# Altium schematic symbol library Schlib1.SchLib: 24 symbols
Pins are listed as number, name and electrical type; pins without a type are passive.

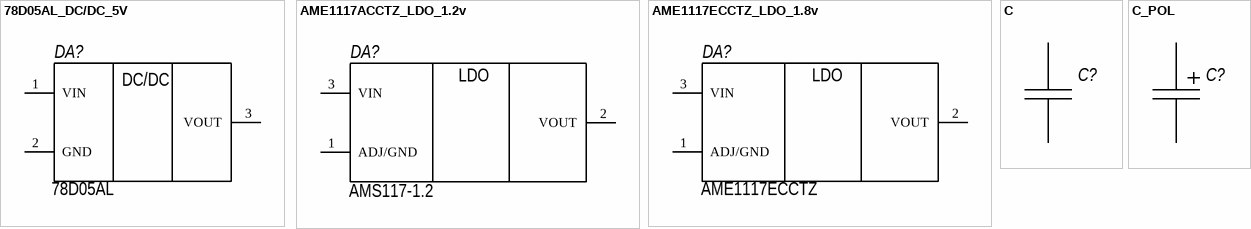
[diagram p0: symbols 78D05AL_DC/DC_5V to C_POL]

## 78D05AL_DC/DC_5V
designator DA?, comment 78D05AL
pins: 1 VIN, 2 GND, 3 VOUT
text: DC/DC

## AME1117ACCTZ_LDO_1.2v
designator DA?, comment AMS117-1.2
pins: 1 ADJ/GND, 2 VOUT, 3 VIN
text: LDO

## AME1117ECCTZ_LDO_1.8v
designator DA?, comment AME1117ECCTZ
pins: 1 ADJ/GND, 2 VOUT, 3 VIN
text: LDO

## C
designator C?
ValueType: Конденсатор
pins: 1, 1, 2, 2

## C_POL
designator C?
ValueType: Конденсатор
pins: 1, 2

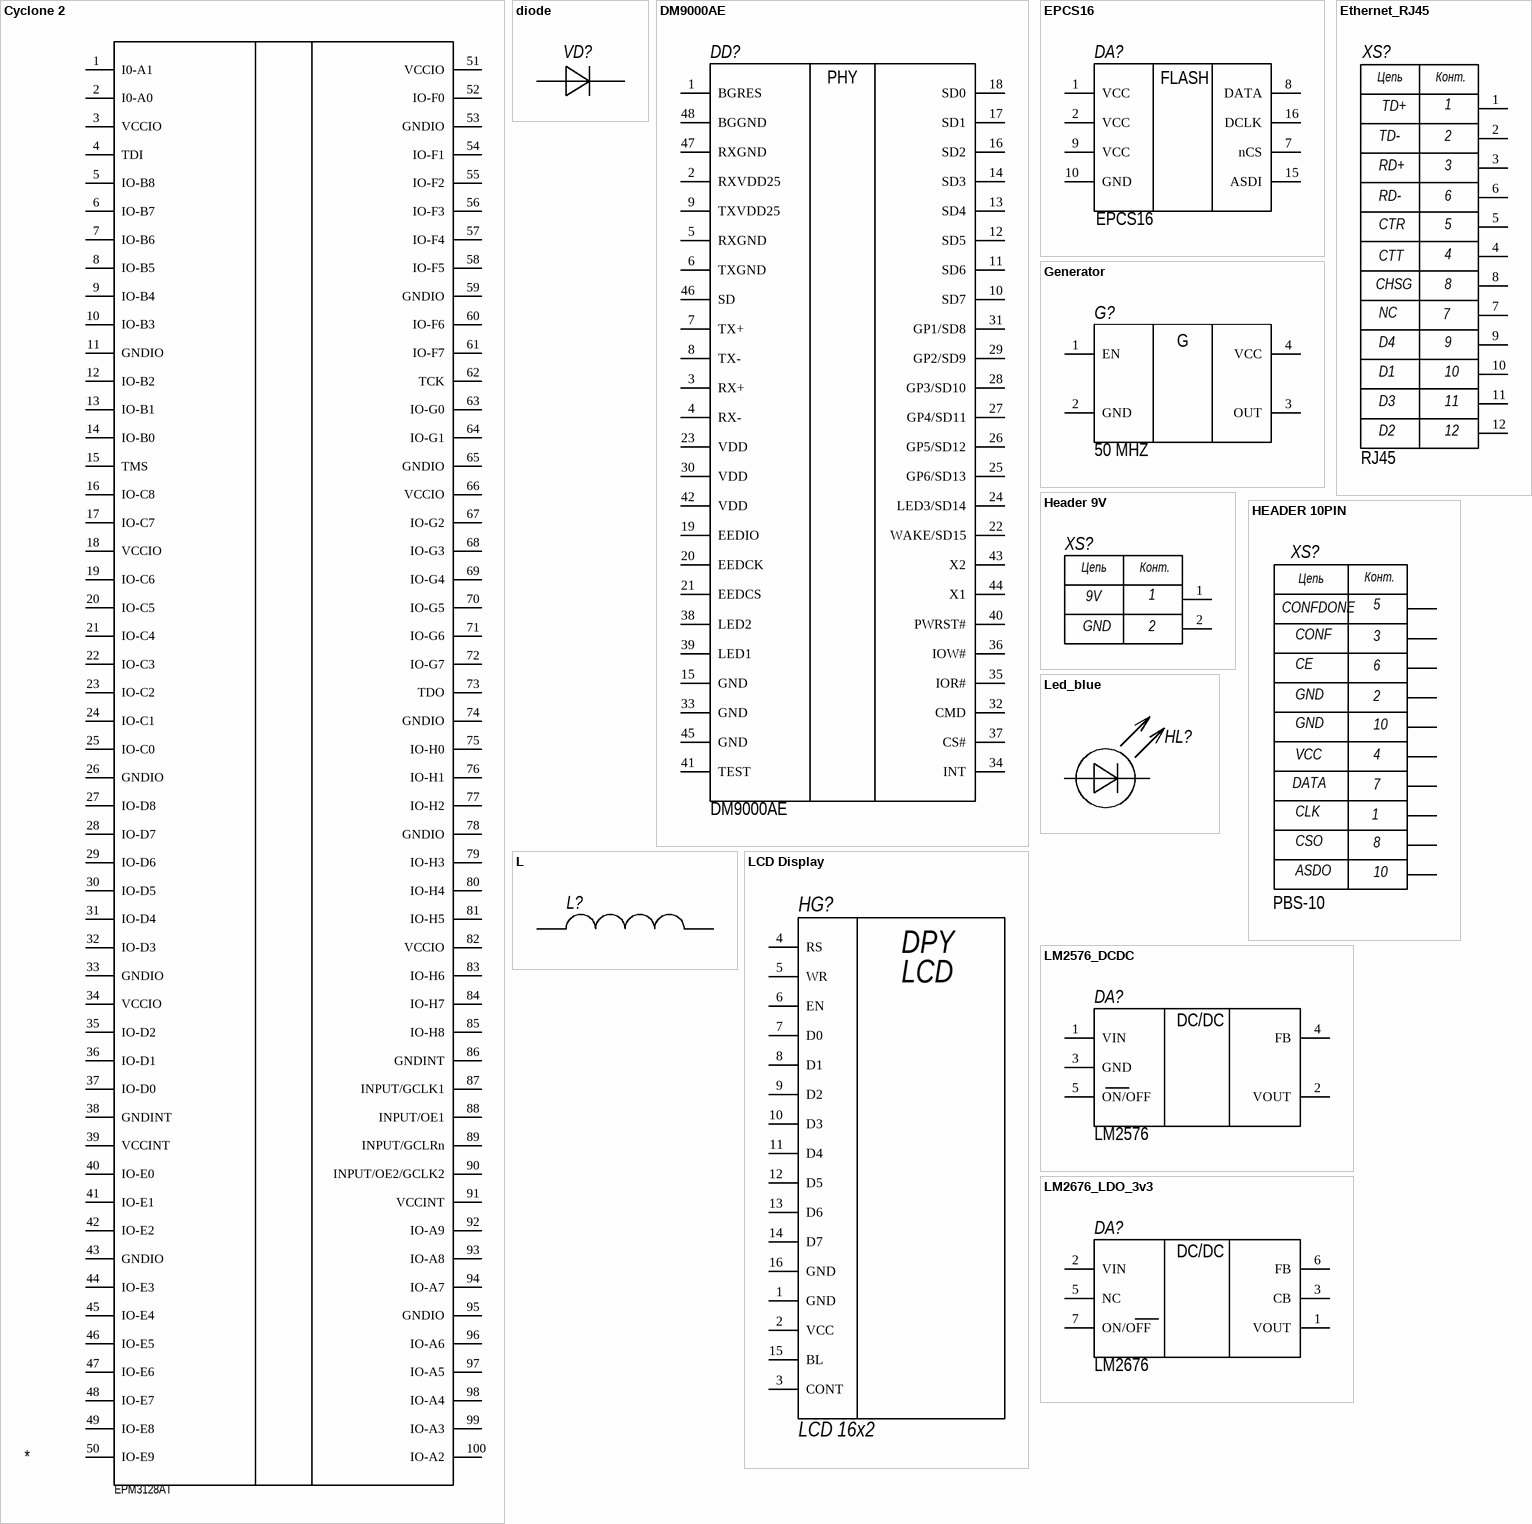
[diagram p1: symbols Cyclone 2 to LM2676_LDO_3v3]

## Cyclone 2
designator *, comment EPM3128AT
pins: 1 I0-A1, 2 I0-A0, 3 VCCIO, 4 TDI, 5 IO-B8, 6 IO-B7, 7 IO-B6, 8 IO-B5, 9 IO-B4, 10 IO-B3, 11 GNDIO, 12 IO-B2, 13 IO-B1, 14 IO-B0, 15 TMS, 16 IO-C8, 17 IO-C7, 18 VCCIO, 19 IO-C6, 20 IO-C5, 21 IO-C4, 22 IO-C3, 23 IO-C2, 24 IO-C1, 25 IO-C0, 26 GNDIO, 27 IO-D8, 28 IO-D7, 29 IO-D6, 30 IO-D5, 31 IO-D4, 32 IO-D3, 33 GNDIO, 34 VCCIO, 35 IO-D2, 36 IO-D1, 37 IO-D0, 38 GNDINT, 39 VCCINT, 40 IO-E0, 41 IO-E1, 42 IO-E2, 43 GNDIO, 44 IO-E3, 45 IO-E4, 46 IO-E5, 47 IO-E6, 48 IO-E7, 49 IO-E8, 50 IO-E9, 51 VCCIO, 52 IO-F0, 53 GNDIO, 54 IO-F1, 55 IO-F2, 56 IO-F3, 57 IO-F4, 58 IO-F5, 59 GNDIO, 60 IO-F6, 61 IO-F7, 62 TCK, 63 IO-G0, 64 IO-G1, 65 GNDIO, 66 VCCIO, 67 IO-G2, 68 IO-G3, 69 IO-G4, 70 IO-G5, 71 IO-G6, 72 IO-G7, 73 TDO, 74 GNDIO, 75 IO-H0, 76 IO-H1, 77 IO-H2, 78 GNDIO, 79 IO-H3, 80 IO-H4, 81 IO-H5, 82 VCCIO, 83 IO-H6, 84 IO-H7, 85 IO-H8, 86 GNDINT, 87 INPUT/GCLK1, 88 INPUT/OE1, 89 INPUT/GCLRn, 90 INPUT/OE2/GCLK2, 91 VCCINT, 92 IO-A9, 93 IO-A8, 94 IO-A7, 95 GNDIO, 96 IO-A6, 97 IO-A5, 98 IO-A4, 99 IO-A3, 100 IO-A2

## diode
designator VD?  (value not drawn)
ValueManufacturer: On Semiconductor; ValueManufacturerPartNumber: BAT54HT1G; Value: *; URL: *; Temp: *; Case: *; ValueType: *; ValueDescription: *
pins: 1, 2

## DM9000AE
designator DD?
pins: 1 BGRES, 2 RXVDD25, 3 RX+, 4 RX-, 5 RXGND, 6 TXGND, 7 TX+, 8 TX-, 9 TXVDD25, 10 SD7, 11 SD6, 12 SD5, 13 SD4, 14 SD3, 15 GND, 16 SD2, 17 SD1, 18 SD0, 19 EEDIO, 20 EEDCK, 21 EEDCS, 22 WAKE/SD15, 23 VDD, 24 LED3/SD14, 25 GP6/SD13, 26 GP5/SD12, 27 GP4/SD11, 28 GP3/SD10, 29 GP2/SD9, 30 VDD, 31 GP1/SD8, 32 CMD, 33 GND, 34 INT, 35 IOR#, 36 IOW#, 37 CS#, 38 LED2, 39 LED1, 40 PWRST#, 41 TEST, 42 VDD, 43 X2, 44 X1, 45 GND, 46 SD, 47 RXGND, 48 BGGND
text: PHY

## EPCS16
designator DA?
pins: 1 VCC, 2 VCC, 7 nCS, 8 DATA, 9 VCC, 10 GND, 15 ASDI, 16 DCLK
text: FLASH

## Ethernet_RJ45
designator XS?, comment RJ45
pins: 1, 2, 3, 4, 5, 6, 7, 8, 9, 10, 11, 12
text: Цепь; Конт.; TD+; TD-; RD+; RD-; CTR; CTT; CHSG; NC; D4; D1; D3; D2

## Generator
designator G?, comment 50 MHZ
pins: 1 EN, 2 GND, 3 OUT, 4 VCC
text: G

## Header 9V
designator XS?, comment Header  (value not drawn)
pins: 1, 2
text: Цепь; Конт.; 9V; GND

## HEADER 10PIN
designator XS?, comment PBS-10
pins: 2, 3, 4, 5 CONFDONE, 5, 6, 7, 8, 9, 10
text: Цепь; Конт.; CONF; CE; GND; VCC; DATA; CLK; 1; CSO; ASDO

## L
designator L?
pins: 1, 2

## LCD Display
designator HG?, comment LCD 16x2
pins: 1 GND, 2 VCC, 3 CONT, 4 RS, 5 WR, 6 EN, 7 D0, 8 D1, 9 D2, 10 D3, 11 D4, 12 D5, 13 D6, 14 D7, 15 BL, 16 GND
text: DPY; LCD

## Led_blue
designator HL?  (value not drawn)
ValueManufacturer: Foryard; ValueManufacturerPartNumber: fyls-0603urc; Temp: -40 C... +85 C; Value: Cиний; ValueType: Светодиод; URL: *; Case: 0603; ValueDescription: Светодиод
pins: 1, 3
1 alternate drawing of the same symbol

## LM2576_DCDC
designator DA?, comment LM2576
pins: 1 VIN, 2 VOUT, 3 GND, 4 FB, 5 ON/OFF
text: DC/DC

## LM2676_LDO_3v3
designator DA?, comment LM2676
pins: 1 VOUT, 2 VIN, 3 CB, 5 NC, 6 FB, 7 ON/OFF
text: DC/DC

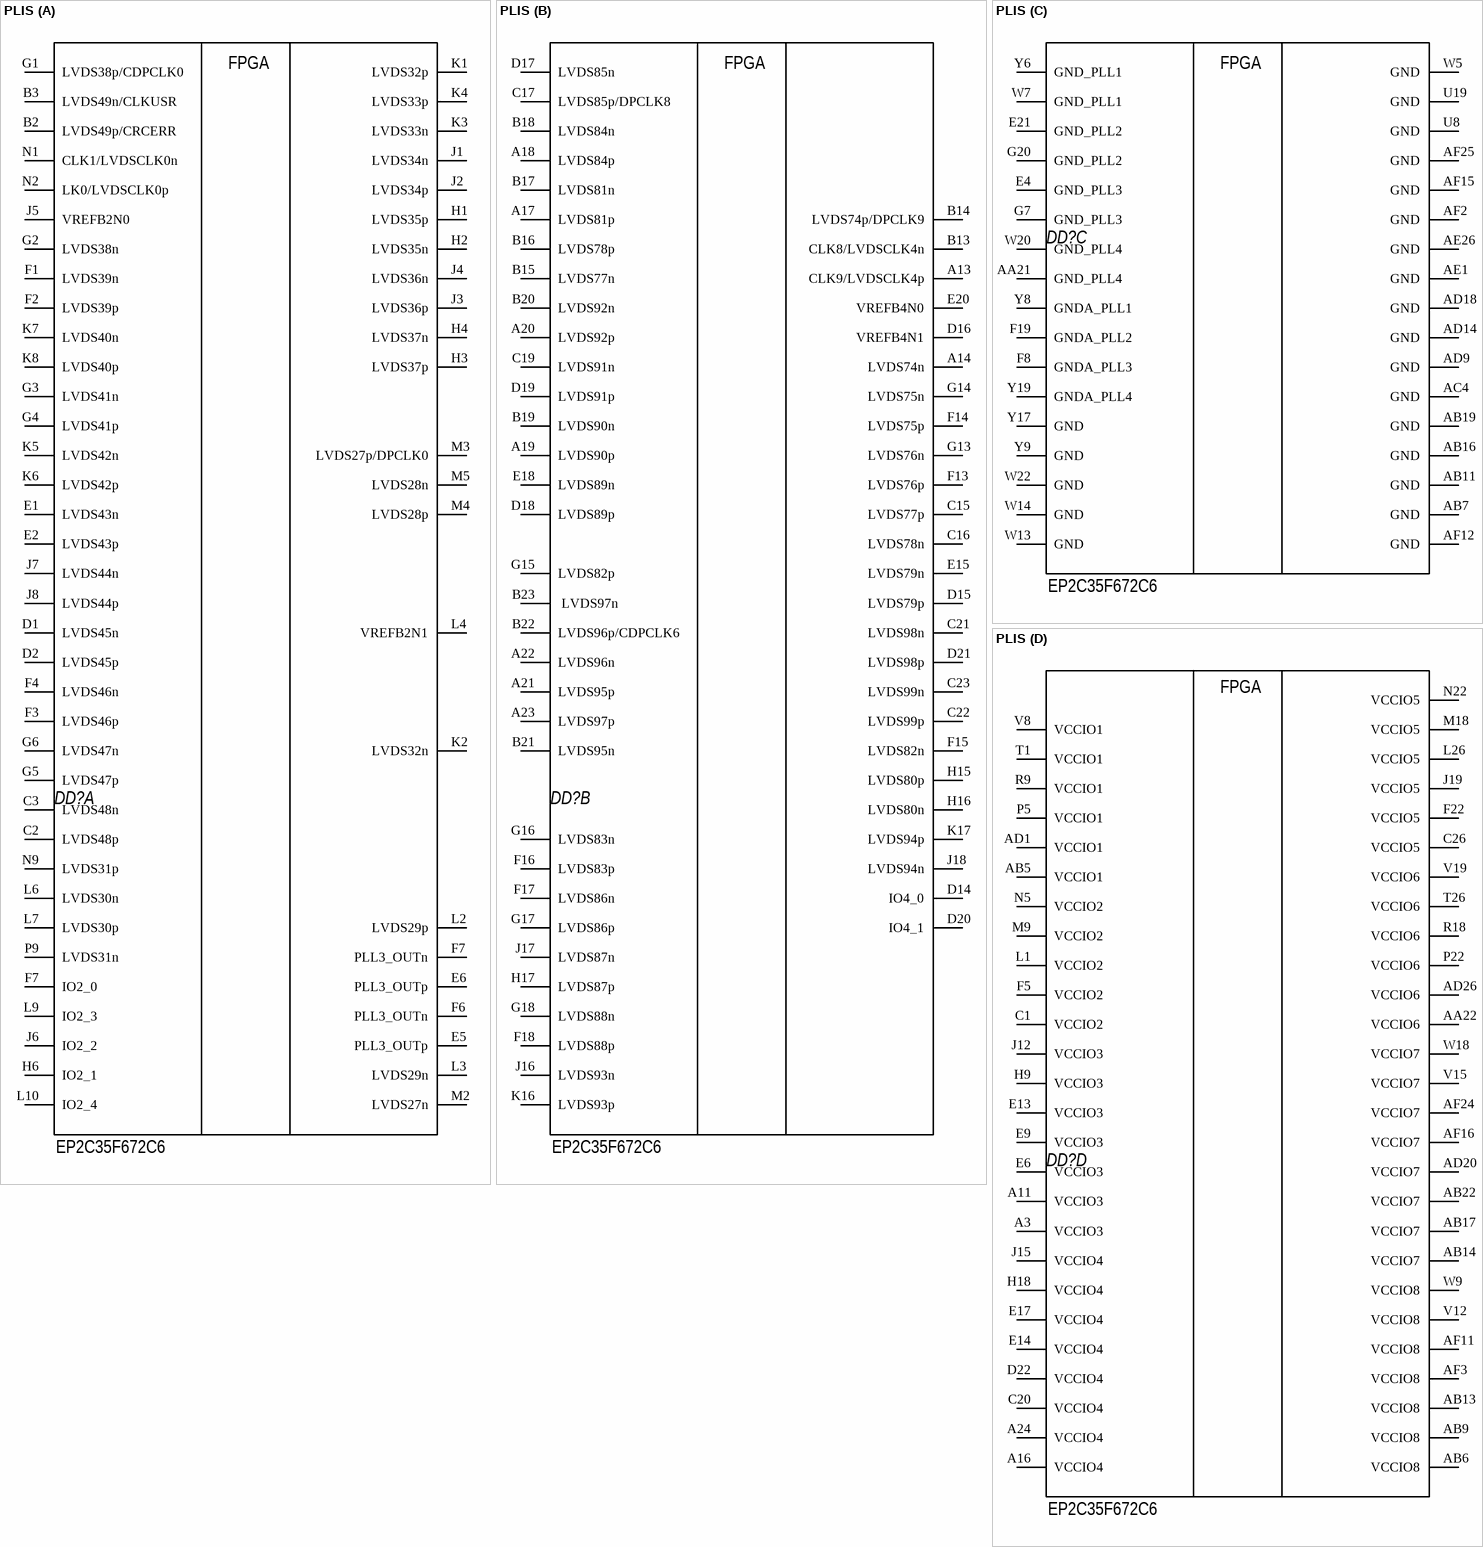
[diagram p2: symbol PLIS]

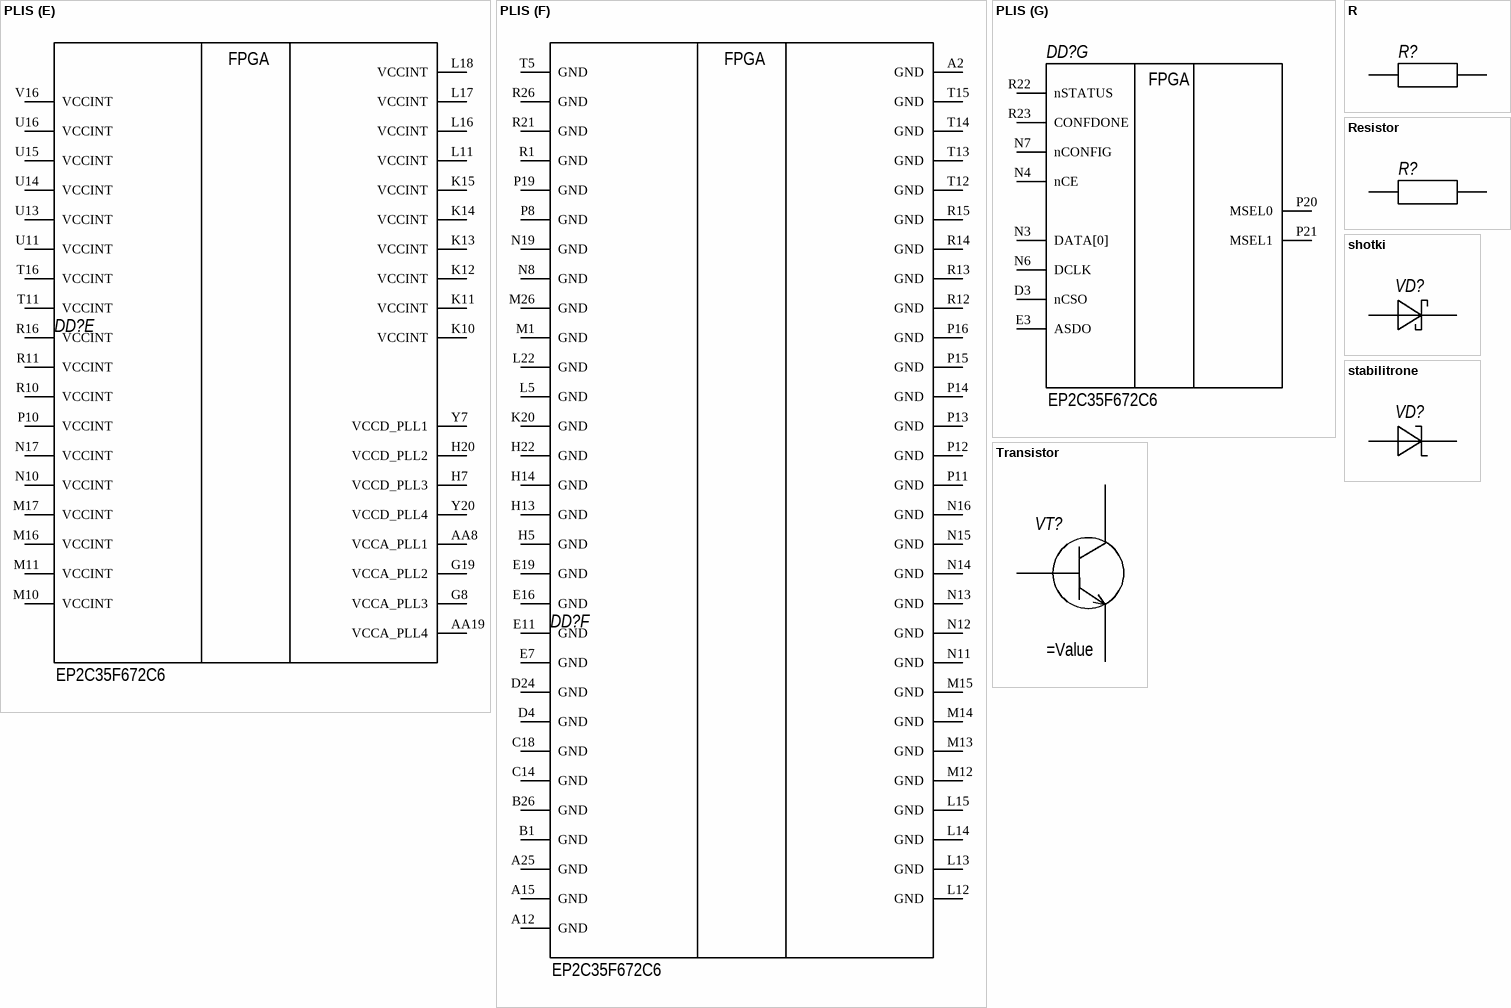
[diagram p3: symbols PLIS to Transistor]

## PLIS
designator DD?, comment EP2C35F672C6
part A pins: B2 LVDS49p/CRCERR, B3 LVDS49n/CLKUSR, C2 LVDS48p, C3 LVDS48n, D1 LVDS45n, D2 LVDS45p, E1 LVDS43n, E2 LVDS43p, E5 PLL3_OUTp, E6 PLL3_OUTp, F1 LVDS39n, F2 LVDS39p, F3 LVDS46p, F4 LVDS46n, F6 PLL3_OUTn, F7 IO2_0, F7 PLL3_OUTn, G1 LVDS38p/CDPCLK0, G2 LVDS38n, G3 LVDS41n, G4 LVDS41p, G5 LVDS47p, G6 LVDS47n, H1 LVDS35p, H2 LVDS35n, H3 LVDS37p, H4 LVDS37n, H6 IO2_1, J1 LVDS34n, J2 LVDS34p, J3 LVDS36p, J4 LVDS36n, J5 VREFB2N0, J6 IO2_2, J7 LVDS44n, J8 LVDS44p, K1 LVDS32p, K2 LVDS32n, K3 LVDS33n, K4 LVDS33p, K5 LVDS42n, K6 LVDS42p, K7 LVDS40n, K8 LVDS40p, L2 LVDS29p, L3 LVDS29n, L4 VREFB2N1, L6 LVDS30n, L7 LVDS30p, L9 IO2_3, L10 IO2_4, M2 LVDS27n, M3 LVDS27p/DPCLK0, M4 LVDS28p, M5 LVDS28n, N1 CLK1/LVDSCLK0n, N2 LK0/LVDSCLK0p, N9 LVDS31p, P9 LVDS31n
part B pins: A13 CLK9/LVDSCLK4p, A14 LVDS74n, A17 LVDS81p, A18 LVDS84p, A19 LVDS90p, A20 LVDS92p, A21 LVDS95p, A22 LVDS96n, A23 LVDS97p, B13 CLK8/LVDSCLK4n, B14 LVDS74p/DPCLK9, B15 LVDS77n, B16 LVDS78p, B17 LVDS81n, B18 LVDS84n, B19 LVDS90n, B20 LVDS92n, B21 LVDS95n, B22 LVDS96p/CDPCLK6, B23  LVDS97n, C15 LVDS77p, C16 LVDS78n, C17 LVDS85p/DPCLK8, C19 LVDS91n, C21 LVDS98n, C22 LVDS99p, C23 LVDS99n, D14 IO4_0, D15 LVDS79p, D16 VREFB4N1, D17 LVDS85n, D18 LVDS89p, D19 LVDS91p, D20 IO4_1, D21 LVDS98p, E15 LVDS79n, E18 LVDS89n, E20 VREFB4N0, F13 LVDS76p, F14 LVDS75p, F15 LVDS82n, F16 LVDS83p, F17 LVDS86n, F18 LVDS88p, G13 LVDS76n, G14 LVDS75n, G15 LVDS82p, G16 LVDS83n, G17 LVDS86p, G18 LVDS88n, H15 LVDS80p, H16 LVDS80n, H17 LVDS87p, J16 LVDS93n, J17 LVDS87n, J18 LVDS94n, K16 LVDS93p, K17 LVDS94p
part C pins: AA21 GND_PLL4, AB7 GND, AB11 GND, AB16 GND, AB19 GND, AC4 GND, AD9 GND, AD14 GND, AD18 GND, AE1 GND, AE26 GND, AF2 GND, AF12 GND, AF15 GND, AF25 GND, E4 GND_PLL3, E21 GND_PLL2, F8 GNDA_PLL3, F19 GNDA_PLL2, G7 GND_PLL3, G20 GND_PLL2, U8 GND, U19 GND, W5 GND, W7 GND_PLL1, W13 GND, W14 GND, W20 GND_PLL4, W22 GND, Y6 GND_PLL1, Y8 GNDA_PLL1, Y9 GND, Y17 GND, Y19 GNDA_PLL4
part D pins: A3 VCCIO3, A11 VCCIO3, A16 VCCIO4, A24 VCCIO4, AA22 VCCIO6, AB5 VCCIO1, AB6 VCCIO8, AB9 VCCIO8, AB13 VCCIO8, AB14 VCCIO7, AB17 VCCIO7, AB22 VCCIO7, AD1 VCCIO1, AD20 VCCIO7, AD26 VCCIO6, AF3 VCCIO8, AF11 VCCIO8, AF16 VCCIO7, AF24 VCCIO7, C1 VCCIO2, C20 VCCIO4, C26 VCCIO5, D22 VCCIO4, E6 VCCIO3, E9 VCCIO3, E13 VCCIO3, E14 VCCIO4, E17 VCCIO4, F5 VCCIO2, F22 VCCIO5, H9 VCCIO3, H18 VCCIO4, J12 VCCIO3, J15 VCCIO4, J19 VCCIO5, L1 VCCIO2, L26 VCCIO5, M9 VCCIO2, M18 VCCIO5, N5 VCCIO2, N22 VCCIO5, P5 VCCIO1, P22 VCCIO6, R9 VCCIO1, R18 VCCIO6, T1 VCCIO1, T26 VCCIO6, V8 VCCIO1, V12 VCCIO8, V15 VCCIO7, V19 VCCIO6, W9 VCCIO8, W18 VCCIO7
part E pins: AA8 VCCA_PLL1, AA19 VCCA_PLL4, G8 VCCA_PLL3, G19 VCCA_PLL2, H7 VCCD_PLL3, H20 VCCD_PLL2, K10 VCCINT, K11 VCCINT, K12 VCCINT, K13 VCCINT, K14 VCCINT, K15 VCCINT, L11 VCCINT, L16 VCCINT, L17 VCCINT, L18 VCCINT, M10 VCCINT, M11 VCCINT, M16 VCCINT, M17 VCCINT, N10 VCCINT, N17 VCCINT, P10 VCCINT, R10 VCCINT, R11 VCCINT, R16 VCCINT, T11 VCCINT, T16 VCCINT, U11 VCCINT, U13 VCCINT, U14 VCCINT, U15 VCCINT, U16 VCCINT, V16 VCCINT, Y7 VCCD_PLL1, Y20 VCCD_PLL4
part F pins: A2 GND, A12 GND, A15 GND, A25 GND, B1 GND, B26 GND, C14 GND, C18 GND, D4 GND, D24 GND, E7 GND, E11 GND, E16 GND, E19 GND, H5 GND, H13 GND, H14 GND, H22 GND, K20 GND, L5 GND, L12 GND, L13 GND, L14 GND, L15 GND, L22 GND, M1 GND, M12 GND, M13 GND, M14 GND, M15 GND, M26 GND, N8 GND, N11 GND, N12 GND, N13 GND, N14 GND, N15 GND, N16 GND, N19 GND, P8 GND, P11 GND, P12 GND, P13 GND, P14 GND, P15 GND, P16 GND, P19 GND, R1 GND, R12 GND, R13 GND, R14 GND, R15 GND, R21 GND, R26 GND, T5 GND, T12 GND, T13 GND, T14 GND, T15 GND
part G pins: D3 nCSO, E3 ASDO, N3 DATA[0], N4 nCE, N6 DCLK, N7 nCONFIG, P20 MSEL0, P21 MSEL1, R22 nSTATUS, R23 CONFDONE
part A text: FPGA
part B text: FPGA
part C text: FPGA
part D text: FPGA
part E text: FPGA
part F text: FPGA
part G text: FPGA

## R
designator R?
pins: 1, 2

## Resistor
designator R?
ValueType: Резистор
pins: 1, 2

## shotki
designator VD?  (value not drawn)
ValueManufacturer: On Semiconductor; ValueManufacturerPartNumber: BAT54HT1G; Value: *; URL: *; Temp: *; Case: *; ValueType: *; ValueDescription: *
pins: 1, 2

## stabilitrone
designator VD?  (value not drawn)
ValueManufacturer: On Semiconductor; ValueManufacturerPartNumber: BAT54HT1G; Value: *; URL: *; Temp: *; Case: *; ValueType: *; ValueDescription: *
pins: 1, 2

## Transistor
designator VT?
pins: 1, 1, 2, 2, 3, 3
1 alternate drawing of the same symbol